# Altium schematic symbol library SpecificChips.SchLib: 30 symbols
Pins are listed as number, name and electrical type; pins without a type are passive.

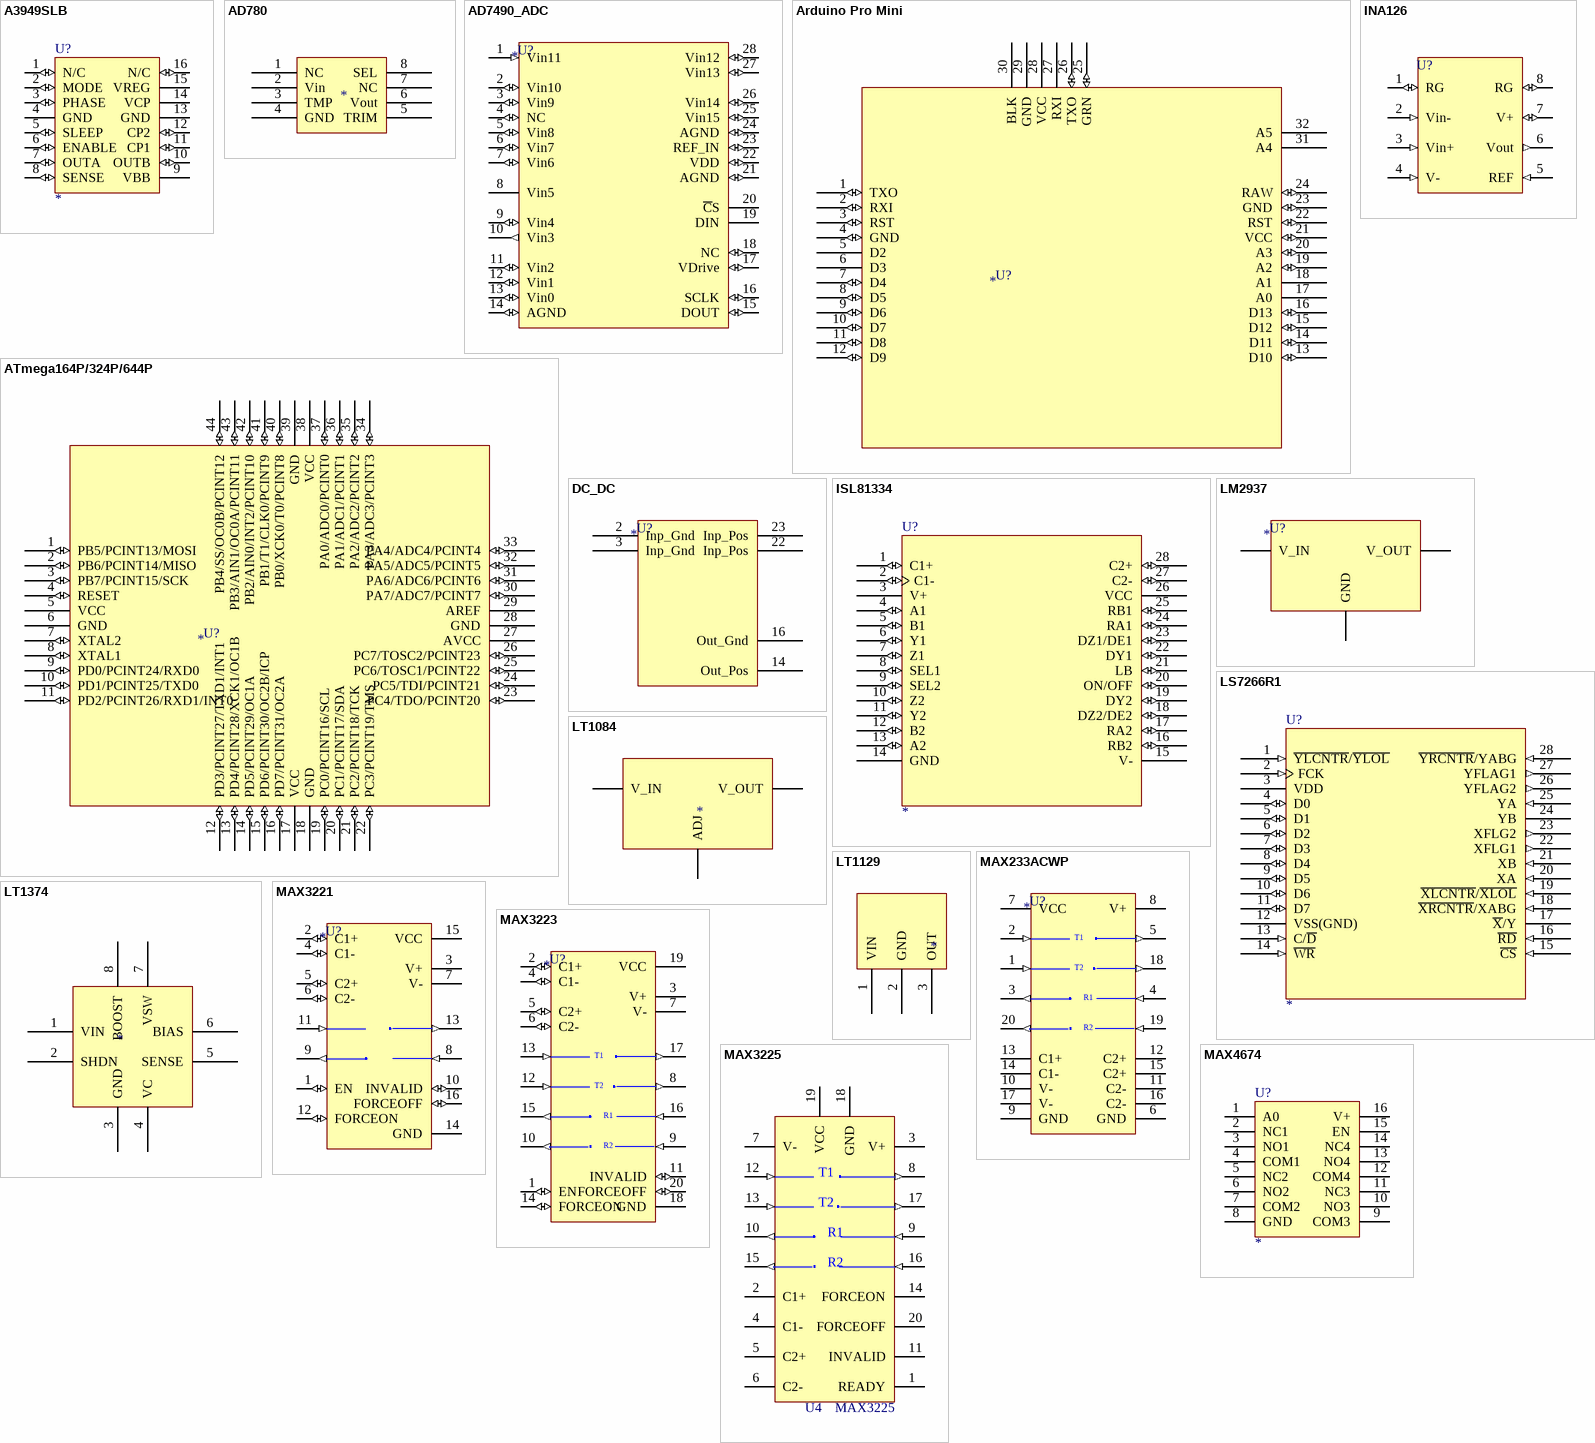
[diagram p0: symbols A3949SLB to MAX4674]

## A3949SLB
designator U?
DMOS Full-Bridge Motor Driver; Text Field1: A3949SLB; Text Field2: Allegro Microsystems
footprint A3949SLB_SOIC16
pins: 1 N/C (io), 2 MODE (io), 3 PHASE (io), 4 GND (power), 5 SLEEP (io), 6 ENABLE (io), 7 OUTA (io), 8 SENSE (io), 9 VBB (power), 10 OUTB (io), 11 CP1 (io), 12 CP2 (io), 13 GND (power), 14 VCP (power), 15 VREG (power), 16 N/C (io)

## AD780
designator *
2.5/3 V Voltage Reference
pins: 1 NC, 2 Vin, 3 TMP, 4 GND, 5 TRIM, 6 Vout, 7 NC, 8 SEL

## AD7490_ADC
designator U?
16-Channel, 1MSPS, 12-Bit ADC with Sequencer in 28-Lead TSSOP; Text Field1: AD7490; Text Field2: Analog Devces: AD7490BRU; Text Field3: order from manufacturer - Analog Devices
footprint TSSOP-28
pins: 1 Vin11 (in), 2 Vin10 (io), 3 Vin9 (io), 4 NC (io), 5 Vin8 (io), 6 Vin7 (io), 7 Vin6 (io), 8 Vin5 (power), 9 Vin4 (io), 10 Vin3 (out), 11 Vin2 (io), 12 Vin1 (io), 13 Vin0 (io), 14 AGND (io), 15 DOUT (io), 16 SCLK (io), 17 VDrive (io), 18 NC (io), 19 DIN (power), 20 ~{C}S (power), 21 AGND (io), 22 VDD (io), 23 REF_IN (io), 24 AGND (io), 25 Vin15 (io), 26 Vin14 (io), 27 Vin13 (io), 28 Vin12 (io)

## Arduino Pro Mini
designator U?
Arduino Pro Mini
footprint Arduino Pro Mini Board
pins: 1 TXO (io), 2 RXI (io), 3 RST (io), 4 GND (io), 5 D2 (power), 6 D3 (power), 7 D4 (io), 8 D5 (io), 9 D6 (io), 10 D7 (io), 11 D8 (io), 12 D9 (io), 13 D10 (io), 14 D11 (io), 15 D12 (io), 16 D13 (io), 17 A0 (power), 18 A1 (power), 19 A2 (io), 20 A3 (io), 21 VCC (io), 22 RST (io), 23 GND (io), 24 RAW (io), 25 GRN (io), 26 TXO (io), 27 RXI (power), 28 VCC (power), 29 GND (power), 30 BLK (power), 31 A4 (power), 32 A5 (power)

## ATmega164P/324P/644P
designator U?
8-bit AVR microcontroller with 16/32/64K bytes flash
footprint TQFP44
pins: 1 PB5/PCINT13/MOSI (io), 2 PB6/PCINT14/MISO (io), 3 PB7/PCINT15/SCK (io), 4 RESET (io), 5 VCC (power), 6 GND (power), 7 XTAL2 (io), 8 XTAL1 (io), 9 PD0/PCINT24/RXD0 (io), 10 PD1/PCINT25/TXD0 (io), 11 PD2/PCINT26/RXD1/INT0 (io), 12 PD3/PCINT27/TXD1/INT1 (io), 13 PD4/PCINT28/XCK1/OC1B (io), 14 PD5/PCINT29/OC1A (io), 15 PD6/PCINT30/OC2B/ICP (io), 16 PD7/PCINT31/OC2A (io), 17 VCC (power), 18 GND (power), 19 PC0/PCINT16/SCL (io), 20 PC1/PCINT17/SDA (io), 21 PC2/PCINT18/TCK (io), 22 PC3/PCINT19/TMS (io), 23 PC4/TDO/PCINT20 (io), 24 PC5/TDI/PCINT21 (io), 25 PC6/TOSC1/PCINT22 (io), 26 PC7/TOSC2/PCINT23 (io), 27 AVCC (power), 28 GND (power), 29 AREF (power), 30 PA7/ADC7/PCINT7 (io), 31 PA6/ADC6/PCINT6 (io), 32 PA5/ADC5/PCINT5 (io), 33 PA4/ADC4/PCINT4 (io), 34 PA3/ADC3/PCINT3 (io), 35 PA2/ADC2/PCINT2 (io), 36 PA1/ADC1/PCINT1 (io), 37 PA0/ADC0/PCINT0 (io), 38 VCC (power), 39 GND (power), 40 PB0/XCK0/T0/PCINT8 (io), 41 PB1/T1/CLK0/PCINT9 (io), 42 PB2/AIN0/INT2/PCINT10 (io), 43 PB3/AIN1/OC0A/PCINT11 (io), 44 PB4/SS/OC0B/PCINT12 (io)

## DC_DC
designator U?
5v DC_DC converter; Text Field1: Tri-Mag TDB5W-1205S; Text Field3: order from www.tri-mag.com
footprint TDB5W-1205S
footprint TDB5W-1205S_SMALL2
pins: 2 Inp_Gnd (power), 3 Inp_Gnd (power), 14 Out_Pos (power), 16 Out_Gnd, 22 Inp_Pos (power), 23 Inp_Pos (power)

## INA126
designator U?
Micropower Instrumentation Amplifier
pins: 1 RG (io), 2 Vin- (in), 3 Vin+ (in), 4 V- (in), 5 REF (in), 6 Vout (out), 7 V+ (io), 8 RG (io)

## ISL81334
designator U?
ESD Protected 5V Two Port Dual Protocol RS-232/485 Transceivers; Text Field1: ISL81334; Text Field2: Intersil Dual Protocol Transceivers; Text Field3: digikey
footprint SSOP28
pins: 1 C1+ (io), 2 C1- (io), 3 V+ (power), 4 A1 (io), 5 B1 (io), 6 Y1 (io), 7 Z1 (io), 8 SEL1 (io), 9 SEL2 (io), 10 Z2 (io), 11 Y2 (io), 12 B2 (io), 13 A2 (io), 14 GND (power), 15 V- (power), 16 RB2 (io), 17 RA2 (io), 18 DZ2/DE2 (io), 19 DY2 (io), 20 ON/OFF (io), 21 LB (io), 22 DY1 (io), 23 DZ1/DE1 (io), 24 RA1 (io), 25 RB1 (io), 26 VCC (power), 27 C2- (io), 28 C2+ (io)

## LM2937
designator U?
5V, .5A voltage regulator; Text Field1: LM2937IMP-5.0CT-ND; Text Field2: National Semiconductor: LM2937IMP-5.0; Text Field3: Optional component
footprint SOT-223
pins: 1 V_IN (power), 2 GND (power), 3 V_OUT (power)

## LS7266R1
designator U?
Encoder to Counter Interface Chip; Text Field1: LS7266R1-SOIC; Text Field2: US Digital LS7266R1-SOIC; Text Field3: Available at usdigital.com
footprint SOIC-28
pins: 1 ~{YLCNTR}/~{YLOL} (in), 2 FCK (in), 3 VDD (power), 4 D0 (io), 5 D1 (io), 6 D2 (io), 7 D3 (io), 8 D4 (io), 9 D5 (io), 10 D6 (io), 11 D7 (io), 12 VSS(GND), 13 C/~{D} (in), 14 ~{WR} (in), 15 ~{CS} (in), 16 ~{RD} (in), 17 ~{X}/Y, 18 ~{XRCNTR}/XABG (in), 19 ~{XLCNTR}/~{XLOL} (in), 20 XA (in), 21 XB (in), 22 XFLG1 (out), 23 XFLG2 (out), 24 YB, 25 YA (in), 26 YFLAG2 (out), 27 YFLAG1 (out), 28 ~{YRCNTR}/YABG (in)

## LT1084
designator *
5A Low Dropout Positive Adj Regulator
pins: 1 V_IN (power), 2 ADJ (power), 3 V_OUT (power)

## LT1129
designator *
Micropower Low Dropout Regulators with Shutdown
footprint SOT-223_LT1129 (SOT-223 for LT1129 Voltage Regulator)
pins: 1 VIN, 2 GND, 3 OUT

## LT1374
designator *
4.5A, 500kHz Step-Down Switching Regulator
pins: 1 VIN, 2 SHDN, 3 GND, 4 VC, 5 SENSE, 6 BIAS, 7 VSW, 8 BOOST

## MAX233ACWP
designator U?
+5V-Powered, Multichannel RS-232 Driver/Receiver; Text Field7: Published 16-Jan-2001
footprint SO-G20
pins: 1 T2IN (in), 2 T1IN (in), 3 R1OUT (out), 4 R1IN (in), 5 T1OUT (out), 6 GND (power), 7 VCC (power), 8 V+, 9 GND (power), 10 V-, 11 C2-, 12 C2+ (power), 13 C1+, 14 C1- (power), 15 C2+, 16 C2-, 17 V- (power), 18 T2OUT (out), 19 R2IN (in), 20 R2OUT (out)
text: T1; T2; R1; R2

## MAX3221
designator U?
3V-5.5V RS-232 Transceivers
footprint SSOP-16
pins: 1 EN (io), 2 C1+ (io), 3 V+, 4 C1- (io), 5 C2+ (io), 6 C2- (io), 7 V-, 8 R1IN (in), 9 R1OUT (out), 10 INVALID (io), 11 T1IN (in), 12 FORCEON (io), 13 T1OUT (out), 14 GND (power), 15 VCC (power), 16 FORCEOFF (io)

## MAX3223
designator U?
3V-5.5V RS-232 Dual Transceivers
footprint SSOP-20
pins: 1 EN (io), 2 C1+ (io), 3 V+, 4 C1- (io), 5 C2+ (io), 6 C2- (io), 7 V-, 8 T2OUT (out), 9 R2IN (in), 10 R2OUT (out), 11 INVALID (io), 12 T2IN (in), 13 T1IN (in), 14 FORCEON (io), 15 R1OUT (out), 16 R1IN (in), 17 T1OUT (out), 18 GND (power), 19 VCC (power), 20 FORCEOFF (io)
text: T1; T2; R1; R2

## MAX3225
designator U4
footprint TSSOP-20_MAX3225
pins: 1 READY (power), 2 C1+, 3 V+, 4 C1- (power), 5 C2+ (power), 6 C2-, 7 V-, 8 T1OUT (out), 9 R1IN (in), 10 R1OUT (out), 11 INVALID (power), 12 T1IN (in), 13 T2IN (in), 14 FORCEON, 15 R2OUT (out), 16 R2IN (in), 17 T2OUT (out), 18 GND (power), 19 VCC (power), 20 FORCEOFF
text: T1; T2; R1; R2

## MAX4674
designator U?
Maxim Wideband Quad 2:1 Analog Multiplexer; Text Field1: MAX4674; Text Field2: Maxim IC
footprint MAX4674_TSSOP
pins: 1 A0 (power), 2 NC1 (power), 3 NO1 (power), 4 COM1 (power), 5 NC2 (power), 6 NO2 (power), 7 COM2 (power), 8 GND (power), 9 COM3 (power), 10 NO3 (power), 11 NC3 (power), 12 COM4 (power), 13 NO4 (power), 14 NC4 (power), 15 EN (power), 16 V+ (power)

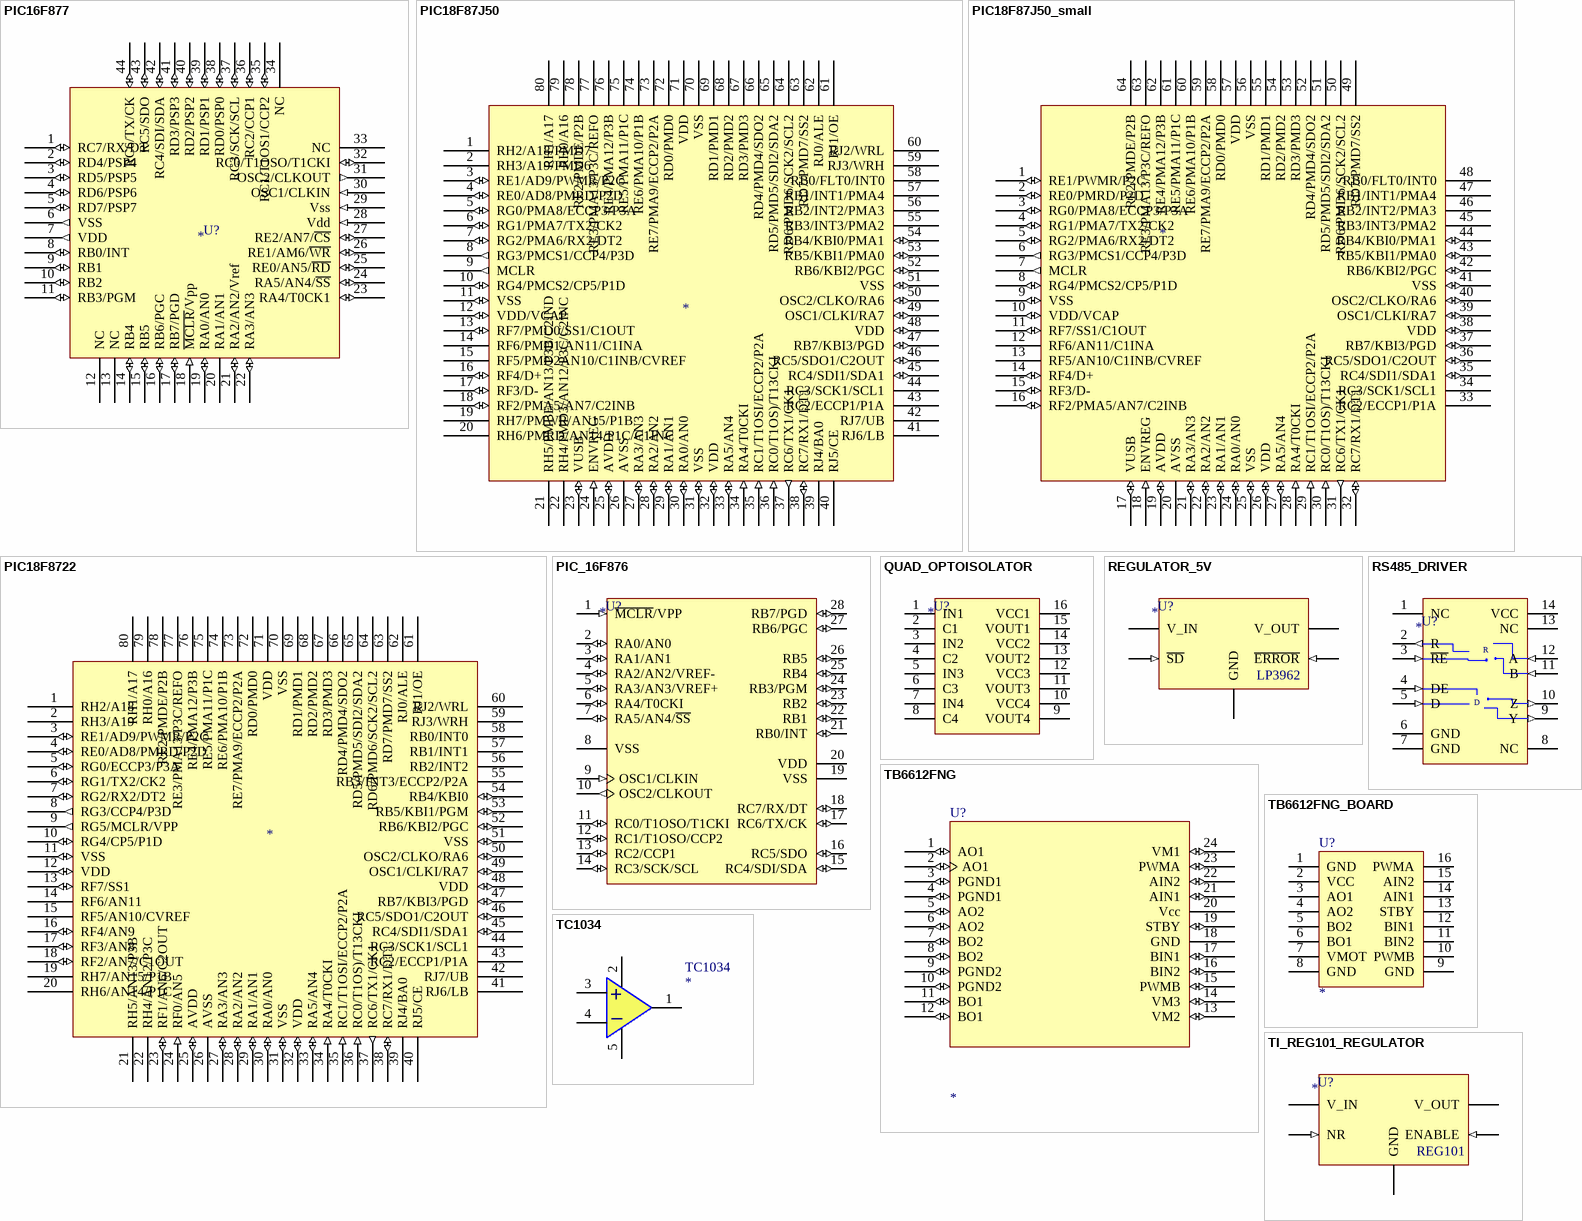
[diagram p1: symbols PIC16F877 to TI_REG101_REGULATOR]

## PIC16F877
designator U?
EPROM-based 8-bit CMOS Micro Controller; Text Field1: PIC16F877-20I/PQ; Text Field3: 44 pin; Text Field2: PIC16F877-20I/PQ
footprint QFP44
pins: 1 RC7/RX/DT (io), 2 RD4/PSP4 (io), 3 RD5/PSP5 (io), 4 RD6/PSP6 (io), 5 RD7/PSP7 (io), 6 VSS (out), 7 VDD (out), 8 RB0/INT (io), 9 RB1 (io), 10 RB2 (io), 11 RB3/PGM (io), 12 NC, 13 NC, 14 RB4 (io), 15 RB5 (io), 16 RB6/PGC (io), 17 RB7/PGD (io), 18 ~{MCLR}/Vpp (in), 19 RA0/AN0 (io), 20 RA1/AN1, 21 RA2/AN2/Vref (io), 22 RA3/AN3 (io), 23 RA4/T0CK1 (io), 24 RA5/AN4/~{SS} (io), 25 RE0/AN5/~{RD} (io), 26 RE1/AM6/~{WR} (io), 27 RE2/AN7/~{CS} (io), 28 Vdd (in), 29 Vss (in), 30 OSC1/CLKIN (in), 31 OSC2/CLKOUT (out), 32 RC0/T1OSO/T1CKI (io), 33 NC, 34 NC, 35 RC1/T1OS1/CCP2 (io), 36 RC2/CCP1 (io), 37 RC3/SCK/SCL (io), 38 RD0/PSP0 (io), 39 RD1/PSP1 (io), 40 RD2/PSP2 (io), 41 RD3/PSP3 (io), 42 RC4/SDI/SDA (io), 43 RC5/SDO (io), 44 RC6/TX/CK (io)

## PIC18F87J50
designator *
footprint TQFP-80
pins: 1 RH2/A18/PMD7, 2 RH3/A19/PMD6, 3 RE1/AD9/PWMR/P2C (io), 4 RE0/AD8/PMRD/P2D (io), 5 RG0/PMA8/ECCP3/P3A (io), 6 RG1/PMA7/TX2/CK2 (io), 7 RG2/PMA6/RX2/DT2 (io), 8 RG3/PMCS1/CCP4/P3D (out), 9 MCLR (out), 10 RG4/PMCS2/CP5/P1D (io), 11 VSS (io), 12 VDD/VCAP (io), 13 RF7/PMD0/SS1/C1OUT (io), 14 RF6/PMD1/AN11/C1INA, 15 RF5/PMD2AN10/C1INB/CVREF, 16 RF4/D+ (io), 17 RF3/D- (io), 18 RF2/PMA5/AN7/C2INB (io), 19 RH7/PMWR/AN15/P1B, 20 RH6/PMRD/AN14/P1C/C1INC, 21 RH5/PMBE/AN13/P3B/C2IND, 22 RH4/PMD3/AN12/P3C/C2INC, 23 VUSB (io), 24 ENVREG (in), 25 AVDD (io), 26 AVSS, 27 RA3/AN3 (io), 28 RA2/AN2 (io), 29 RA1/AN1 (io), 30 RA0/AN0 (io), 31 VSS (io), 32 VDD (io), 33 RA5/AN4 (io), 34 RA4/T0CKI (in), 35 RC1/T1OSI/ECCP2/P2A (in), 36 RC0/T1OS)/T13CKI (in), 37 RC6/TX1/CK1 (out), 38 RC7/RX1/DT1 (io), 39 RJ4/BA0, 40 RJ5/CE, 41 RJ6/LB, 42 RJ7/UB, 43 RC2/ECCP1/P1A, 44 RC3/SCK1/SCL1, 45 RC4/SDI1/SDA1 (io), 46 RC5/SDO1/C2OUT (io), 47 RB7/KBI3/PGD (io), 48 VDD (io), 49 OSC1/CLKI/RA7 (io), 50 OSC2/CLKO/RA6 (io), 51 VSS (io), 52 RB6/KBI2/PGC (io), 53 RB5/KBI1/PMA0 (io), 54 RB4/KBI0/PMA1 (io), 55 RB3/INT3/PMA2, 56 RB2/INT2/PMA3, 57 RB1/INT1/PMA4, 58 RB0/FLT0/INT0, 59 RJ3/WRH, 60 RJ2/WRL, 61 RJ1/OE, 62 RJ0/ALE, 63 RD7/PMD7/SS2, 64 RD6/PMD6/SCK2/SCL2, 65 RD5/PMD5/SDI2/SDA2, 66 RD4/PMD4/SDO2, 67 RD3/PMD3, 68 RD2/PMD2, 69 RD1/PMD1, 70 VSS, 71 VDD, 72 RD0/PMD0, 73 RE7/PMA9/ECCP2/P2A, 74 RE6/PMA10/P1B, 75 RE5/PMA11/P1C, 76 RE4/PMA12/P3B, 77 RE3/PMA13/P3C/REFO, 78 RE2/PMDE/P2B, 79 RH0/A16, 80 RH1/A17

## PIC18F87J50_small
designator *
pins: 1 RE1/PWMR/P2C (io), 2 RE0/PMRD/P2D (io), 3 RG0/PMA8/ECCP3/P3A (io), 4 RG1/PMA7/TX2/CK2 (io), 5 RG2/PMA6/RX2/DT2 (io), 6 RG3/PMCS1/CCP4/P3D (out), 7 MCLR (out), 8 RG4/PMCS2/CP5/P1D (io), 9 VSS (io), 10 VDD/VCAP (io), 11 RF7/SS1/C1OUT (io), 12 RF6/AN11/C1INA, 13 RF5/AN10/C1INB/CVREF, 14 RF4/D+ (io), 15 RF3/D- (io), 16 RF2/PMA5/AN7/C2INB (io), 17 VUSB (io), 18 ENVREG (in), 19 AVDD (io), 20 AVSS, 21 RA3/AN3 (io), 22 RA2/AN2 (io), 23 RA1/AN1 (io), 24 RA0/AN0 (io), 25 VSS (io), 26 VDD (io), 27 RA5/AN4 (io), 28 RA4/T0CKI (in), 29 RC1/T1OSI/ECCP2/P2A (in), 30 RC0/T1OS)/T13CKI (in), 31 RC6/TX1/CK1 (out), 32 RC7/RX1/DT1 (io), 33 RC2/ECCP1/P1A, 34 RC3/SCK1/SCL1, 35 RC4/SDI1/SDA1 (io), 36 RC5/SDO1/C2OUT (io), 37 RB7/KBI3/PGD (io), 38 VDD (io), 39 OSC1/CLKI/RA7 (io), 40 OSC2/CLKO/RA6 (io), 41 VSS (io), 42 RB6/KBI2/PGC (io), 43 RB5/KBI1/PMA0 (io), 44 RB4/KBI0/PMA1 (io), 45 RB3/INT3/PMA2, 46 RB2/INT2/PMA3, 47 RB1/INT1/PMA4, 48 RB0/FLT0/INT0, 49 RD7/PMD7/SS2, 50 RD6/PMD6/SCK2/SCL2, 51 RD5/PMD5/SDI2/SDA2, 52 RD4/PMD4/SDO2, 53 RD3/PMD3, 54 RD2/PMD2, 55 RD1/PMD1, 56 VSS, 57 VDD, 58 RD0/PMD0, 59 RE7/PMA9/ECCP2/P2A, 60 RE6/PMA10/P1B, 61 RE5/PMA11/P1C, 62 RE4/PMA12/P3B, 63 RE3/PMA13/P3C/REFO, 64 RE2/PMDE/P2B

## PIC18F8722
designator *
pins: 1 RH2/A18, 2 RH3/A19, 3 RE1/AD9/PWMR/P2C (io), 4 RE0/AD8/PMRD/P2D (io), 5 RG0/ECCP3/P3A (io), 6 RG1/TX2/CK2 (io), 7 RG2/RX2/DT2 (io), 8 RG3/CCP4/P3D (out), 9 RG5/MCLR/VPP (out), 10 RG4/CP5/P1D (io), 11 VSS (io), 12 VDD (io), 13 RF7/SS1 (io), 14 RF6/AN11, 15 RF5/AN10/CVREF, 16 RF4/AN9 (io), 17 RF3/AN8 (io), 18 RF2/AN7/C1OUT (io), 19 RH7/AN15/P1B, 20 RH6/AN14/P1C, 21 RH5/AN13/P3B, 22 RH4/AN12/P3C, 23 RF1/AN6/C2OUT (io), 24 RF0/AN5 (in), 25 AVDD (io), 26 AVSS, 27 RA3/AN3 (io), 28 RA2/AN2 (io), 29 RA1/AN1 (io), 30 RA0/AN0 (io), 31 VSS (io), 32 VDD (io), 33 RA5/AN4 (io), 34 RA4/T0CKI (in), 35 RC1/T1OSI/ECCP2/P2A (in), 36 RC0/T1OS)/T13CKI (in), 37 RC6/TX1/CK1 (out), 38 RC7/RX1/DT1 (io), 39 RJ4/BA0, 40 RJ5/CE, 41 RJ6/LB, 42 RJ7/UB, 43 RC2/ECCP1/P1A, 44 RC3/SCK1/SCL1, 45 RC4/SDI1/SDA1 (io), 46 RC5/SDO1/C2OUT (io), 47 RB7/KBI3/PGD (io), 48 VDD (io), 49 OSC1/CLKI/RA7 (io), 50 OSC2/CLKO/RA6 (io), 51 VSS (io), 52 RB6/KBI2/PGC (io), 53 RB5/KBI1/PGM (io), 54 RB4/KBI0 (io), 55 RB3/INT3/ECCP2/P2A, 56 RB2/INT2, 57 RB1/INT1, 58 RB0/INT0, 59 RJ3/WRH, 60 RJ2/WRL, 61 RJ1/OE, 62 RJ0/ALE, 63 RD7/PMD7/SS2, 64 RD6/PMD6/SCK2/SCL2, 65 RD5/PMD5/SDI2/SDA2, 66 RD4/PMD4/SDO2, 67 RD3/PMD3, 68 RD2/PMD2, 69 RD1/PMD1, 70 VSS, 71 VDD, 72 RD0/PMD0, 73 RE7/PMA9/ECCP2/P2A, 74 RE6/PMA10/P1B, 75 RE5/PMA11/P1C, 76 RE4/PMA12/P3B, 77 RE3/PMA13/P3C/REFO, 78 RE2/PMDE/P2B, 79 RH0/A16, 80 RH1/A17

## PIC_16F876
designator U?
EPROM-Based 8-Bit CMOS Microcontroller; Text Field1: PIC16F876-20/SO-ND; Text Field2: Microchip: PIC16F876
footprint SOIC-28
footprint DIP-28
pins: 1 ~{MCLR}/VPP (in), 2 RA0/AN0 (io), 3 RA1/AN1 (io), 4 RA2/AN2/VREF- (io), 5 RA3/AN3/VREF+ (io), 6 RA4/T0CKI (io), 7 RA5/AN4/~{SS} (io), 8 VSS (power), 9 OSC1/CLKIN (in), 10 OSC2/CLKOUT (out), 11 RC0/T1OSO/T1CKI (io), 12 RC1/T1OSO/CCP2 (io), 13 RC2/CCP1 (io), 14 RC3/SCK/SCL (io), 15 RC4/SDI/SDA (io), 16 RC5/SDO (io), 17 RC6/TX/CK (io), 18 RC7/RX/DT (io), 19 VSS (power), 20 VDD (power), 21 RB0/INT (io), 22 RB1 (io), 23 RB2 (io), 24 RB3/PGM (io), 25 RB4 (io), 26 RB5 (io), 27 RB6/PGC (io), 28 RB7/PGD (io)

## QUAD_OPTOISOLATOR
designator U?
4 Channel optoisolator; Text Field1: PS2801-4-ND; Text Field2: NEC: PS2801-4; Text Field3: Alternative Part: TLP-281-4
footprint SOP-16
pins: 1 IN1 (power), 2 C1 (power), 3 IN2 (power), 4 C2 (power), 5 IN3 (power), 6 C3 (power), 7 IN4 (power), 8 C4 (power), 9 VOUT4 (power), 10 VCC4 (power), 11 VOUT3 (power), 12 VCC3 (power), 13 VOUT2 (power), 14 VCC2 (power), 15 VOUT1 (power), 16 VCC1 (power)

## REGULATOR_5V
designator U?
5V, 1.5A 'ultra' low dropout voltage regulator; Text Field1: LP3962ES-5.0-ND; Text Field2: National Semiconductor: LP3962; Text Field3: Either footprint will work, but be sure to get the right part number; Text Field4: Also acceptable: Digi-Key: LP3962EMP-5.0CT-ND
footprint TO-263-5
footprint SOT-223-5
pins: 1 ~{SD} (in), 2 V_IN (power), 3 V_OUT (power), 4 ~{ERROR} (in), 5 GND (power)
text: LP3962

## RS485_DRIVER
designator U?
Low-Power, Slew-Rate-Limited RS-485/RS-422 Transceiver; Text Field1: LTC491CS-ND; Text Field2: Linear Technologies: LTC491
footprint SOIC-14
pins: 1 NC, 2 R (out), 3 ~{RE} (in), 4 DE (in), 5 D (in), 6 GND (power), 7 GND (power), 8 NC, 9 Y (out), 10 Z (out), 11 B (in), 12 A (in), 13 NC, 14 VCC (power)

## TB6612FNG
designator U?
Driver IC for dual DC motor; Text Field1: TB6612FNG; Text Field3: digikey
footprint TB6612FNG_SSOP24
pins: 1 AO1 (io), 2 AO1 (io), 3 PGND1 (io), 4 PGND1 (io), 5 AO2 (io), 6 AO2 (io), 7 BO2 (io), 8 BO2 (io), 9 PGND2 (io), 10 PGND2 (io), 11 BO1 (io), 12 BO1 (io), 13 VM2 (io), 14 VM3 (io), 15 PWMB (io), 16 BIN2 (io), 17 BIN1 (io), 18 GND (power), 19 STBY (io), 20 Vcc (power), 21 AIN1 (io), 22 AIN2 (io), 23 PWMA (io), 24 VM1 (io)

## TB6612FNG_BOARD
designator U?
H-Bridge dual  board from Pololu, with TB6612FNG chip; Text Field1: MAX4674; Text Field2: Maxim IC
footprint TB6612FNG_BOARD
pins: 1 GND (power), 2 VCC (power), 3 AO1 (power), 4 AO2 (power), 5 BO2 (power), 6 BO1 (power), 7 VMOT (power), 8 GND (power), 9 GND (power), 10 PWMB (power), 11 BIN2 (power), 12 BIN1 (power), 13 STBY (power), 14 AIN1 (power), 15 AIN2 (power), 16 PWMA (power)

## TC1034
designator TC1034
Single CMOS Operational Amplifier; Text Field1: TC1034ECTTRCT-ND; Text Field2: Microchip TC1034ECTTR
footprint SOT-23A-5
pins: 1 OUTPUT, 2 VDD, 3 IN+, 4 IN-, 5 VSS
text: +; _

## TI_REG101_REGULATOR
designator U?
2.5V,  ADC ref voltage regulator; Text Field1: REG101NA-2.5CT-ND; Text Field2: BURR-BROWN REG101NA-2.5/250
footprint SOT-223-5
pins: 1 V_IN (power), 2 GND (power), 3 ENABLE (in), 4 NR (in), 5 V_OUT (power)
text: REG101